# Altium schematic symbol library MOSFET,N Ch,60V,100A.Schlib: 1 symbol
Pins are listed as number, name and electrical type; pins without a type are passive.

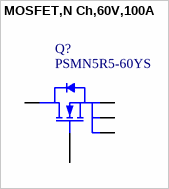
[diagram p0: symbol MOSFET,N Ch,60V,100A]

## MOSFET,N Ch,60V,100A
designator Q?, comment PSMN5R5-60YS
N-Channel 60V 100A (Tc) 130W (Tc) Surface Mount LFPAK56, Power-SO8
pins: 1 S, 2 S, 3 S, 4 G, 5 D